# EAGLE library part PCA9698 (library PortExpanders)
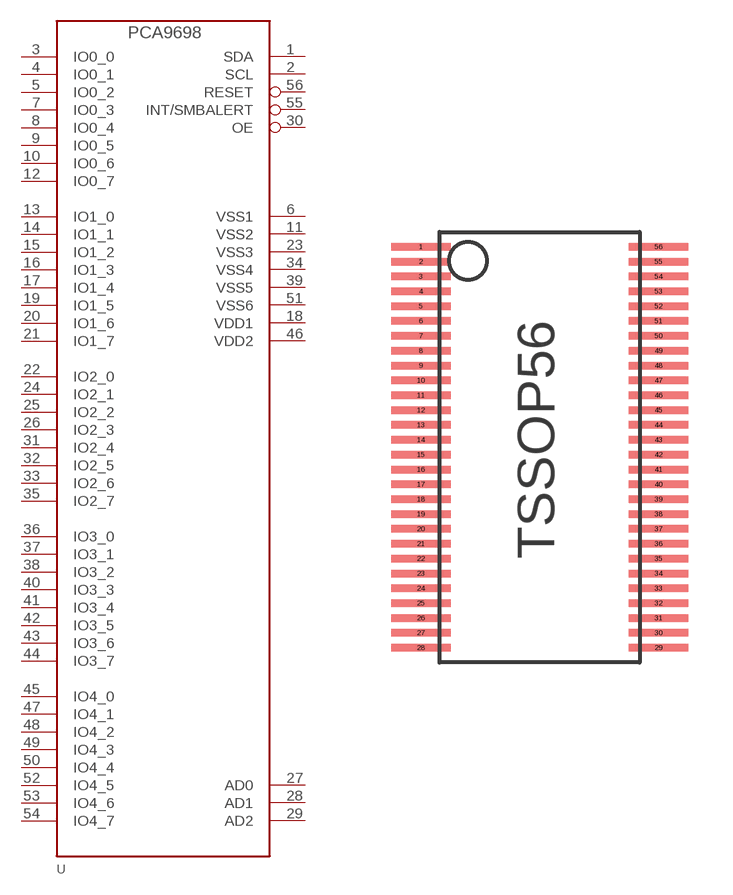
[diagram p0: symbol with the pads of TSSOP56; footprint TSSOP56]

Designator prefix -

## PCA9698  [TSSOP56]
1  SDA
2  SCL
3  IO0_0
4  IO0_1
5  IO0_2
6  VSS1
7  IO0_3
8  IO0_4
9  IO0_5
10  IO0_6
11  VSS2
12  IO0_7
13  IO1_0
14  IO1_1
15  IO1_2
16  IO1_3
17  IO1_4
18  VDD1
19  IO1_5
20  IO1_6
21  IO1_7
22  IO2_0
23  VSS3
24  IO2_1
25  IO2_2
26  IO2_3
27  AD0
28  AD1
29  AD2
30  OE
31  IO2_4
32  IO2_5
33  IO2_6
34  VSS4
35  IO2_7
36  IO3_0
37  IO3_1
38  IO3_2
39  VSS5
40  IO3_3
41  IO3_4
42  IO3_5
43  IO3_6
44  IO3_7
45  IO4_0
46  VDD2
47  IO4_1
48  IO4_2
49  IO4_3
50  IO4_4
51  VSS6
52  IO4_5
53  IO4_6
54  IO4_7
55  INT/SMBALERT
56  RESET

## Footprint TSSOP56 (pad centres in mm)
smd 2 x 0.254: 1 -4,6.5; 2 -4,6; 3 -4,5.5; 4 -4,5; 5 -4,4.5; 6 -4,4; 7 -4,3.5; 8 -4,3; 9 -4,2.5; 10 -4,2; 11 -4,1.5; 12 -4,1; 13 -4,0.5; 14 -4,0; 15 -4,-0.5; 16 -4,-1; 17 -4,-1.5; 18 -4,-2; 19 -4,-2.5; 20 -4,-3; 21 -4,-3.5; 22 -4,-4; 23 -4,-4.5; 24 -4,-5; 25 -4,-5.5; 26 -4,-6; 27 -4,-6.5; 28 -4,-7; 29 4,-7; 30 4,-6.5; 31 4,-6; 32 4,-5.5; 33 4,-5; 34 4,-4.5; 35 4,-4; 36 4,-3.5; 37 4,-3; 38 4,-2.5; 39 4,-2; 40 4,-1.5; 41 4,-1; 42 4,-0.5; 43 4,0; 44 4,0.5; 45 4,1; 46 4,1.5; 47 4,2; 48 4,2.5; 49 4,3; 50 4,3.5; 51 4,4; 52 4,4.5; 53 4,5; 54 4,5.5; 55 4,6; 56 4,6.5